# EAGLE library part LSM6DSL (library CPSS_SENSOR)
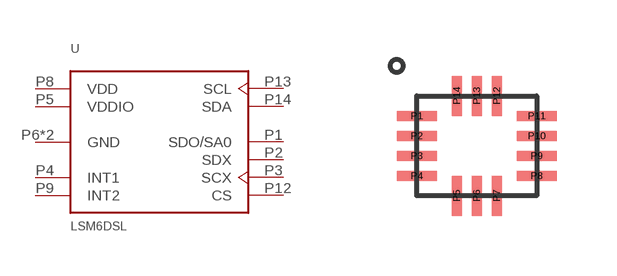
[diagram p4: symbol with the pads of LGA-14; footprint LGA-14]

Designator prefix U

## LSM6DSL  [LGA-14]
P1  SDO/SA0
P2  SDX
P3  SCX
P4  INT1
P5  VDDIO
P6  GND
P7  GND
P8  VDD
P9  INT2
P12  CS
P13  SCL
P14  SDA

## Footprint LGA-14 (pad centres in mm)
smd 1 x 0.25: P1 -1.5,0.75; P2 -1.5,0.25; P3 -1.5,-0.25; P4 -1.5,-0.75; P8 1.5,-0.75; P9 1.5,-0.25; P10 1.5,0.25; P11 1.5,0.75
smd 0.25 x 1: P5 -0.5,-1.25; P6 0,-1.25; P7 0.5,-1.25; P12 0.5,1.25; P13 0,1.25; P14 -0.5,1.25